# EAGLE library part TDC7200_TSSOP (library Texas Instruments)
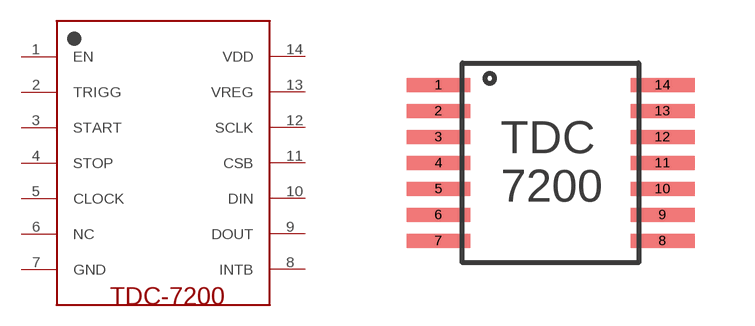
[diagram p0: symbol with the pads of TDC7200_TSSOP; footprint TDC7200_TSSOP]

Designator prefix -

## TDC7200_TSSOPTSSOP-14  [TDC7200_TSSOP]
1  EN  in
2  TRIGG
3  START  in
4  STOP  in
5  CLOCK  in
6  NC  nc
7  GND  out
8  INTB
9  DOUT  out
10  DIN  in
11  CSB  in
12  SCLK  in
13  VREG
14  VDD  pwr

## Footprint TDC7200_TSSOP (pad centres in mm)
smd 1.6 x 0.35: 1 -2.8,1.95; 2 -2.8,1.3; 3 -2.8,0.65; 4 -2.8,0; 5 -2.8,-0.65; 6 -2.8,-1.3; 7 -2.8,-1.95; 8 2.8,-1.95; 9 2.8,-1.3; 10 2.8,-0.65; 11 2.8,0; 12 2.8,0.65; 13 2.8,1.3; 14 2.8,1.95